# Altium footprint library SMBJ_TVS.PcbLib: 1 footprints
Each footprint in its own frame and in the unit in brackets; x right, y up, seen from the top. Pads: shape width x height; smd on the part's side, far side on the other; paste and mask are expansions set on the pad; w line width, h text height; cw(c..) or ccw(c..) is an arc to the next point about the centre after c.
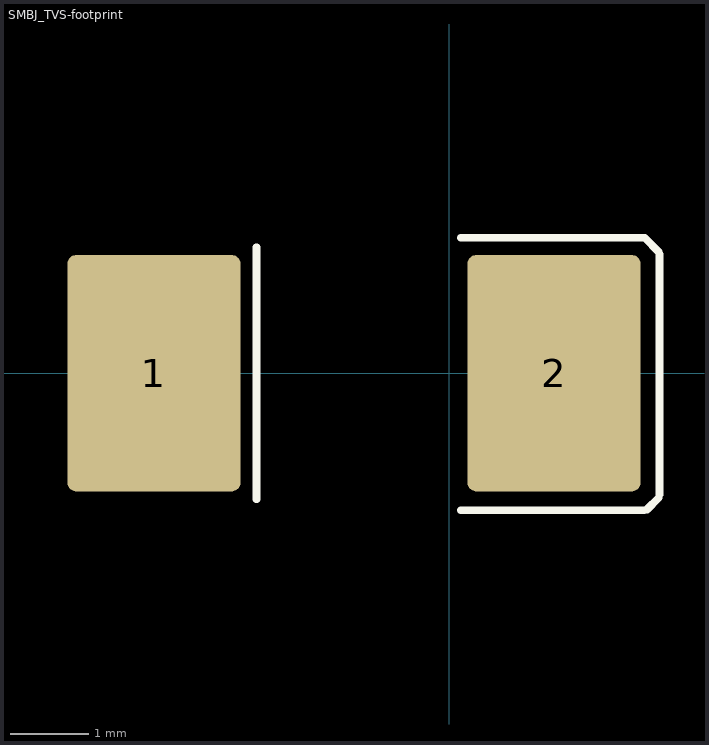
[diagram p0: the footprint, top view; thin cyan lines are the x and y axes]

## SMBJ_TVS-footprint [mm]
pads (2):
  rrect10% 2.2x3 smd: 1(-3.75,0) 2(1.33,0)
Top Overlay:
  lines w0.1: -2.45,-1.6 -2.45,1.6 ; 0.15,-1.74 2.47,-1.74 ; 0.15,1.72 2.48,1.72 2.66,1.54 ; 2.51,-1.73 2.66,-1.58 ; 2.67,-1.54 2.67,1.51
3D body: height 0.25, standoff 0, extent -3.75,0 -3.75,0